# Altium schematic symbol library RoBeast_Schematic_Library.SchLib: 131 symbols (part 1 of 5)
Pins are listed as number, name and electrical type; pins without a type are passive.

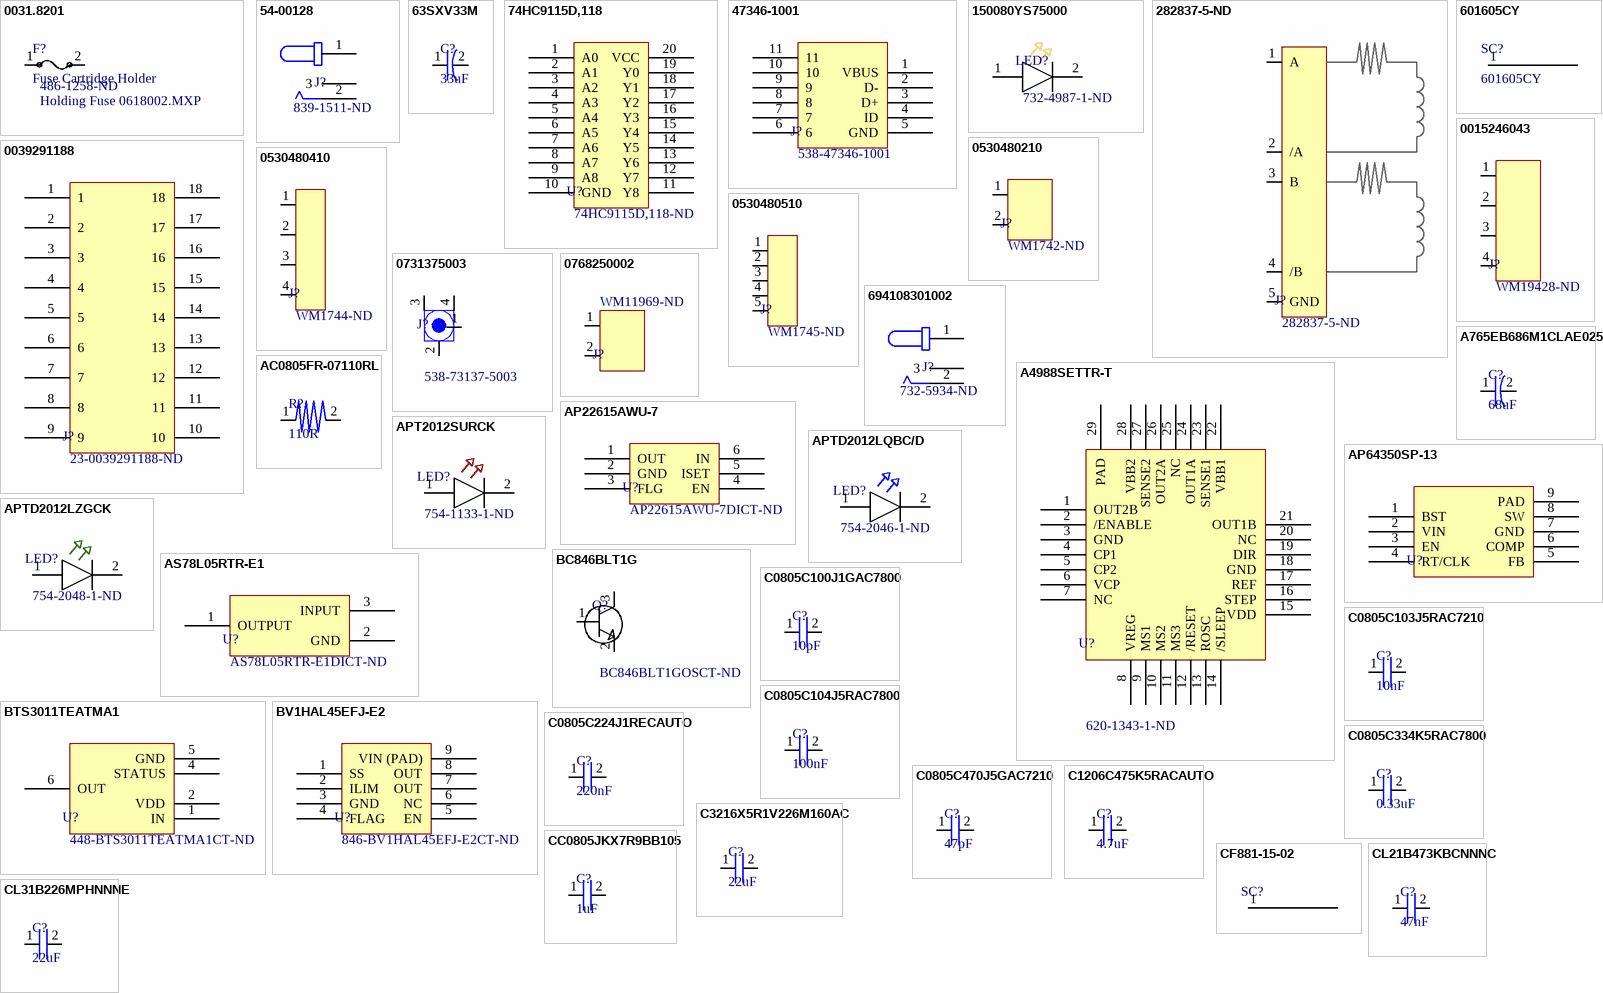
[diagram p0: symbols 0031.8201 to CL31B226MPHNNNE]

## 0031.8201
designator F?, comment Fuse Cartridge Holder  Supplier Part Number 1: 486-1258-ND
Fuse Holder Open Design; 5 x 20mm; 500V; 10A; 1P; Solder THT 22.5mm; Manufacturer: Schurter; Manufacturer Part Number: 00318201; Supplier 1: Digikey; RoHS: Yes; Category: Fuse Holders; Stock 1: 148074; Pricing 1: 1=0.91, 50=0.676, 100=0.608, 500=0.47 (USD); ComponentLink1URL: https://datasheet.ciiva.com/3014/typ-ogn-3014480.pdf?src-supplier=Avnet; ComponentLink1Description: https://datasheet.ciiva.com/3014/typ-ogn-3014480.pdf?src-supplier=Avnet; ComponentLink2URL: https://datasheet.ciiva.com/3014/typ-ogn-3014480.pdf?src-supplier=Mouser; ComponentLink2Description: https://datasheet.ciiva.com/3014/typ-ogn-3014480.pdf?src-supplier=Mouser; ComponentLink3URL: https://datasheet.ciiva.com/16215/typ-ogn-16215099.pdf?src-supplier=Onlinecomponents.com; ComponentLink3Description: https://datasheet.ciiva.com/16215/typ-ogn-16215099.pdf?src-supplier=Onlinecomponents.com; ComponentLink4URL: https://datasheet.ciiva.com/16203/typ-ogn-16203626.pdf?src-supplier=Future+Electronics; ComponentLink4Description: https://datasheet.ciiva.com/16203/typ-ogn-16203626.pdf?src-supplier=Future+Electronics; ComponentLink5URL: https://datasheet.ciiva.com/15188/getdatasheetpartid-392104-15188042.pdf?src-supplier=Verical; ComponentLink5Description: https://datasheet.ciiva.com/15188/getdatasheetpartid-392104-15188042.pdf?src-supplier=Verical; ComponentLink6URL: https://datasheet.ciiva.com/1269/1842496-1269251.pdf?src-supplier=Element14; ComponentLink6Description: https://datasheet.ciiva.com/1269/1842496-1269251.pdf?src-supplier=Element14; ComponentLink7URL: https://datasheet.ciiva.com/25893/typ-ogn-25893934.pdf?; ComponentLink7Description: https://datasheet.ciiva.com/25893/typ-ogn-25893934.pdf?
footprint 0031.8201
pins: 1, 2
text: Holding Fuse 0618002.MXP

## 54-00128
designator J?, comment Supplier Part Number 1: 839-1511-ND  (hidden comment: Power Jack Connector)
Conn DC Power RCP 2 POS Solder RA Thru-Hole 3 Terminal 1 Port; Manufacturer: Tensility; Manufacturer Part Number: 54-00128; Supplier 1: Digikey; RoHS: No; Category: Connectors; Stock 1: 19136; Pricing 1: 1=0.91, 10=0.767, 100=0.6888, 1000=0.50096, 5000=0.43834, 10000=0.41642 (USD); ComponentLink1URL: http://www.tensility.com/pdffiles/54-00128.pdf?src-supplier=Digikey; ComponentLink1Description: http://www.tensility.com/pdffiles/54-00128.pdf?src-supplier=Digikey
footprint 54-00128
pins: 1, 2, 3 (power)

## 63SXV33M
designator C?, comment 33uF
Aluminum Electrolytic Capacitor, Polarized, Aluminum (solid Polymer), 63V, 20% +Tol, 20% -Tol, 33uF, Surface Mount, 3333; Manufacturer: Panasonic; Manufacturer Part Number: 63SXV33M; Supplier 1: Digikey; RoHS: Yes; Category: Polymer Capacitors; Stock 1: 2602; Pricing 1: 1=3.04, 10=2.334, 50=2.144, 100=1.7777 (USD); ComponentLink1URL: https://datasheet.ciiva.com:443/pdfs/VipMasterIC/IC/PANA/PANA-S-A0009016952/PANA-S-A0009016952-1.pdf?src-supplier=IHS+Markit; ComponentLink1Description: https://datasheet.ciiva.com:443/pdfs/VipMasterIC/IC/PANA/PANA-S-A0009016952/PANA-S-A0009016952-1.pdf?src-supplier=IHS+Markit; ComponentLink2URL: https://media.digikey.com/pdf/Data%20Sheets/Panasonic%20Capacitors%20PDFs/SXE,SXV_Series_63V,80V_Line_Ext.pdf?src-supplier=Digikey; ComponentLink2Description: https://media.digikey.com/pdf/Data%20Sheets/Panasonic%20Capacitors%20PDFs/SXE,SXV_Series_63V,80V_Line_Ext.pdf?src-supplier=Digikey; ComponentLink3URL: http://industrial.panasonic.com/cdbs/www-data/pdf/AAB8000/AAB8000C259.pdf?src-supplier=Newark; ComponentLink3Description: http://industrial.panasonic.com/cdbs/www-data/pdf/AAB8000/AAB8000C259.pdf?src-supplier=Newark; ComponentLink4URL: https://media.digikey.com/pdf/Data%20Sheets/Panasonic%20Capacitors%20PDFs/SXE,SXV_Series_63V,80V_Line_Ext.pdf?src-supplier=Verical; ComponentLink4Description: https://media.digikey.com/pdf/Data%20Sheets/Panasonic%20Capacitors%20PDFs/SXE,SXV_Series_63V,80V_Line_Ext.pdf?src-supplier=Verical; ComponentLink5URL: https://datasheet.octopart.com/63SXV33M-Panasonic-datasheet-78862147.pdf?src-supplier=Element14; ComponentLink5Description: https://datasheet.octopart.com/63SXV33M-Panasonic-datasheet-78862147.pdf?src-supplier=Element14; ComponentLink6URL: https://industrial.panasonic.com/cdbs/www-data/pdf/AAB8000/AAB8000C259.pdf?src-supplier=Digikey; ComponentLink6Description: https://industrial.panasonic.com/cdbs/www-data/pdf/AAB8000/AAB8000C259.pdf?src-supplier=Digikey; ComponentLink7URL: http://industrial.panasonic.com/cdbs/www-data/pdf/AAB8000/AAB8000C259.pdf?src-supplier=Farnell; ComponentLink7Description: http://industrial.panasonic.com/cdbs/www-data/pdf/AAB8000/AAB8000C259.pdf?src-supplier=Farnell; ComponentLink8URL: https://media.digikey.com/pdf/Data%20Sheets/Panasonic%20Capacitors%20PDFs/SXE,SXV_Series_63V,80V_Line_Ext.pdf?src-supplier=Mouser; ComponentLink8Description: https://media.digikey.com/pdf/Data%20Sheets/Panasonic%20Capacitors%20PDFs/SXE,SXV_Series_63V,80V_Line_Ext.pdf?src-supplier=Mouser; ComponentLink9URL: https://media.digikey.com/pdf/Data%20Sheets/Panasonic%20Capacitors%20PDFs/SXE,SXV_Series_63V,80V_Line_Ext.pdf?src-supplier=Onlinecomponents.com; ComponentLink9Description: https://media.digikey.com/pdf/Data%20Sheets/Panasonic%20Capacitors%20PDFs/SXE,SXV_Series_63V,80V_Line_Ext.pdf?src-supplier=Onlinecomponents.com; ComponentLink10URL: https://media.digikey.com/pdf/Data%20Sheets/Panasonic%20Capacitors%20PDFs/SXE,SXV_Series_63V,80V_Line_Ext.pdf?src-supplier=Arrow+Electronics; ComponentLink10Description: https://media.digikey.com/pdf/Data%20Sheets/Panasonic%20Capacitors%20PDFs/SXE,SXV_Series_63V,80V_Line_Ext.pdf?src-supplier=Arrow+Electronics; ComponentLink11URL: https://datasheet.octopart.com/63SXV33M-Panasonic-datasheet-98225043.pdf?src-supplier=Farnell; ComponentLink11Description: https://datasheet.octopart.com/63SXV33M-Panasonic-datasheet-98225043.pdf?src-supplier=Farnell; ComponentLink12URL: https://media.digikey.com/pdf/Data%20Sheets/Panasonic%20Capacitors%20PDFs/SXE,SXV_Series_63V,80V_Line_Ext.pdf?src-supplier=Conrad; ComponentLink12Description: https://media.digikey.com/pdf/Data%20Sheets/Panasonic%20Capacitors%20PDFs/SXE,SXV_Series_63V,80V_Line_Ext.pdf?src-supplier=Conrad; ComponentLink13URL: https://media.digikey.com/pdf/Data%20Sheets/Panasonic%20Capacitors%20PDFs/SXE,SXV_Series_63V,80V_Line_Ext.pdf?src-supplier=TTI; ComponentLink13Description: https://media.digikey.com/pdf/Data%20Sheets/Panasonic%20Capacitors%20PDFs/SXE,SXV_Series_63V,80V_Line_Ext.pdf?src-supplier=TTI; ComponentLink14URL: https://media.digikey.com/pdf/Data%20Sheets/Panasonic%20Capacitors%20PDFs/SXE,SXV_Series_63V,80V_Line_Ext.pdf?src-supplier=Electro+Sonic; ComponentLink14Description: https://media.digikey.com/pdf/Data%20Sheets/Panasonic%20Capacitors%20PDFs/SXE,SXV_Series_63V,80V_Line_Ext.pdf?src-supplier=Electro+Sonic; ComponentLink15URL: https://media.digikey.com/pdf/Data%20Sheets/Panasonic%20Capacitors%20PDFs/SXE,SXV_Series_63V,80V_Line_Ext.pdf?src-supplier=NAC+Semi; ComponentLink15Description: https://media.digikey.com/pdf/Data%20Sheets/Panasonic%20Capacitors%20PDFs/SXE,SXV_Series_63V,80V_Line_Ext.pdf?src-supplier=NAC+Semi; ComponentLink16URL: https://datasheet.octopart.com/63SXV33M-Panasonic-datasheet-136807604.pdf?src-supplier=Master+Electronics; ComponentLink16Description: https://datasheet.octopart.com/63SXV33M-Panasonic-datasheet-136807604.pdf?src-supplier=Master+Electronics; Supplier Part Number 1: P18934CT-ND
footprint 63SXV33M
pins: 1, 2

## 74HC9115D,118
designator U?, comment Supplier Part Number 1: 74HC9115D,118-ND  (hidden comment: Schmitt Trigger (x9))
Buffer, HC/UH Series, 9-Func, 1-Input, CMOS, PDSO20; Manufacturer: NXP Semiconductors; Manufacturer Part Number: 74HC9115D,118; Package Body Material: Plastic; Load Capacitance (CL): 50pF; Max I(ol): 4mA; Number of Functions: 9; Number of Inputs: 1; Output Characteristics: OPEN-DRAIN; Package Equivalence Code: SOP20,.4; Power Supplies: 2/6V; Propagation Delay (tpd): 33ns; Schmitt Trigger: Yes; Supply Voltage-Max (Vsup): 6V; Supply Voltage-Min (Vsup): 2V; Supply Voltage-Nom (Vsup): 5V; Time @ Peak Reflow Temperature-Max (s): 30s; Qualification Status: Not Qualified; Supplier 1: Digikey; RoHS: Yes; Category: Uncategorized; Package Code: SOP; Number of Pins: 20; Package Shape: Rectangular; Terminal Finish: Nickel; Min Operating Temperature: -40°C; Max Operating Temperature: 125°C; JESD-609 Code: e4; JESD-30 Code: R-PDSO-G20; Logic IC Type: BUFFER; Moisture Sensitivity Level: 1; Package Style: SMALL OUTLINEMeter; Packaging: Tape and Reel; Peak Reflow Temperature (Cel): 260°C; Surface Mount: Yes; Technology: CMOS; Terminal Form: Gull Wing; Terminal Position: DUAL; Length: 12.8mm; Width: 7.5mm; Height - Seated (Max): 2.65mm; Terminal Pitch: 1.27mm; Temperature Grade: AUTOMOTIVE; RoHS Compliant: Yes; Reach SVHC Compliant: Yes; ComponentLink1URL: https://datasheet.ciiva.com:443/pdfs/VipMasterIC/IC/PHGL/PHGLS05970/PHGLS05970-1.pdf?src-supplier=IHS+Markit; ComponentLink1Description: https://datasheet.ciiva.com:443/pdfs/VipMasterIC/IC/PHGL/PHGLS05970/PHGLS05970-1.pdf?src-supplier=IHS+Markit; ComponentLink2URL: https://datasheet.ciiva.com/8262/74hc-hct9115-cnv-8262544.pdf?src-supplier=Avnet; ComponentLink2Description: https://datasheet.ciiva.com/8262/74hc-hct9115-cnv-8262544.pdf?src-supplier=Avnet; ComponentLink3URL: https://datasheet.ciiva.com/1839/74hc-hct9115-cnv-1839353.pdf?src-supplier=Digikey; ComponentLink3Description: https://datasheet.ciiva.com/1839/74hc-hct9115-cnv-1839353.pdf?src-supplier=Digikey
footprint 74HC9115D,118
pins: 1 A0, 2 A1, 3 A2, 4 A3, 5 A4, 6 A5, 7 A6, 8 A7, 9 A8, 10 GND, 11 Y8, 12 Y7, 13 Y6, 14 Y5, 15 Y4, 16 Y3, 17 Y2, 18 Y1, 19 Y0, 20 VCC

## 47346-1001
designator J?, comment Supplier Part Number 1: 538-47346-1001  (hidden comment: uUSB)
USB Connector, 5 Contact(s), Female, Right Angle, Surface Mount Terminal, Locking, Receptacle; Manufacturer: Molex; Manufacturer Part Number: 47346-1001; Supplier 1: Mouser; RoHS: Yes; Category: USB Connectors; Stock 1: 5356; Pricing 1: 1=0.76, 10=0.654, 50=0.654, 100=0.58, 1000=0.527, 10000=0.497 (USD)
footprint 47346-1001
pins: 1 VBUS, 2 D-, 3 D+, 4 ID, 5 GND, 6, 7, 8, 9, 10, 11

## 150080YS75000
designator LED?, comment Supplier Part Number 1: 732-4987-1-ND  (hidden comment: Yellow LED)
Single Color LED, Yellow, Water Clear, 1.4mm; Manufacturer: Wurth Electronics; Manufacturer Part Number: 150080YS75000; Shape: Rectangular; Forward Current-Max: 30mA; Luminous Intensity-Nom: 120mcd; Number of Functions: 1; Viewing Angle: 140°; Overall Height: 0.7mm; Supplier 1: Digikey; RoHS: Yes; Category: LEDs; Stock 1: 29241; Pricing 1: 1=0.19, 50=0.176, 100=0.151, 500=0.131 (USD); Mount: Surface Mount; Number of Pins: 2; Color: Yellow; Min Operating Temperature: -40°C; Max Operating Temperature: 85°C; Lens Style: WATER CLEAR; Optoelectronic Device Type: SINGLE COLOR LED; Packaging: Tape and Reel; Size: 1.4mm; Terminal Pitch: 2.1mm; Reach SVHC Compliant: Yes; RoHS Compliant: Yes; ComponentLink1URL: https://datasheet.ciiva.com:443/pdfs/VipMasterIC/IC/MIDC/MIDC-S-A0007455942/MIDC-S-A0007455942-1.pdf?src-supplier=IHS+Markit; ComponentLink1Description: https://datasheet.ciiva.com:443/pdfs/VipMasterIC/IC/MIDC/MIDC-S-A0007455942/MIDC-S-A0007455942-1.pdf?src-supplier=IHS+Markit; ComponentLink2URL: https://datasheet.ciiva.com/23843/150080ys75000-23843256.pdf?src-supplier=Newark; ComponentLink2Description: https://datasheet.ciiva.com/23843/150080ys75000-23843256.pdf?src-supplier=Newark; ComponentLink3URL: https://datasheet.ciiva.com/29279/759438-da-01-en-chipled-0805-w-kl-gelb-150080ys75000-29279034.pdf?src-supplier=Conrad; ComponentLink3Description: https://datasheet.ciiva.com/29279/759438-da-01-en-chipled-0805-w-kl-gelb-150080ys75000-29279034.pdf?src-supplier=Conrad; ComponentLink4URL: https://datasheet.ciiva.com/22656/1911353-22656971.pdf?src-supplier=Element14; ComponentLink4Description: https://datasheet.ciiva.com/22656/1911353-22656971.pdf?src-supplier=Element14; ComponentLink5URL: https://datasheet.ciiva.com/29563/150080ys75000-29563020.pdf?src-supplier=Digikey; ComponentLink5Description: https://datasheet.ciiva.com/29563/150080ys75000-29563020.pdf?src-supplier=Digikey; ComponentLink6URL: https://datasheet.ciiva.com/29563/150080ys75000-29563019.pdf?src-supplier=Digikey; ComponentLink6Description: https://datasheet.ciiva.com/29563/150080ys75000-29563019.pdf?src-supplier=Digikey; ComponentLink7URL: https://datasheet.ciiva.com/29563/150080ys75000-29563021.pdf?src-supplier=Digikey; ComponentLink7Description: https://datasheet.ciiva.com/29563/150080ys75000-29563021.pdf?src-supplier=Digikey
footprint 0805_LED
pins: 1 A, 2 K

## 282837-5-ND
designator J?, comment Supplier Part Number: 282837-5-ND  (hidden comment: Motor Connector)
Modular Terminal Block, 13.5A, 1.5mm2, 1 Row(s), 1 Deck(s); Manufacturer: TE Connectivity; Manufacturer Part Number: 282837-5; Manufacturer Series: 282837; Fastening Method: SCREW; Number of Decks: 1; Number of Ways: 5; Voltage Rating: 300V; Wire/Cable Gauge: 15AWG; Safety Approval: UL; Supplier: Digikey; Category: Terminal Blocks; Stock: 2167; Pricing: 1=1.56, 10=1.427, 25=1.3852, 50=1.3712, 100=1.2727, 250=1.2516, 500=1.13908, 1000=1.01956, 5000=0.91408 (USD); Mounting Technology: Board; Number of Rows: 1; Terminal and Terminal Block Type: MODULAR TERMINAL BLOCK; Current Rating: 13.5A; Wire Cross Section: 1.5mm2; RoHS Compliant: Yes; ComponentLink1URL: https://www.te.com:443/usa-en/product-282837-5.html?src-supplier=IHS+Markit; ComponentLink1Description: https://www.te.com:443/usa-en/product-282837-5.html?src-supplier=IHS+Markit; ComponentLink2URL: https://datasheet.ciiva.com/23766/1650862-23766273.pdf?src-supplier=Newark; ComponentLink2Description: https://datasheet.ciiva.com/23766/1650862-23766273.pdf?src-supplier=Newark; ComponentLink3URL: https://datasheet.ciiva.com/16305/282837-5-16305253.pdf?src-supplier=Future+Electronics; ComponentLink3Description: https://datasheet.ciiva.com/16305/282837-5-16305253.pdf?src-supplier=Future+Electronics; ComponentLink4URL: https://datasheet.ciiva.com/823/eng-cd-282837-g3-823468.pdf?src-supplier=Digikey; ComponentLink4Description: https://datasheet.ciiva.com/823/eng-cd-282837-g3-823468.pdf?src-supplier=Digikey; ComponentLink5URL: https://datasheet.ciiva.com/3141/eng-cs-1308389-eurostyle-terminal-blocks-0607-3141582.pdf?src-supplier=Avnet; ComponentLink5Description: https://datasheet.ciiva.com/3141/eng-cs-1308389-eurostyle-terminal-blocks-0607-3141582.pdf?src-supplier=Avnet; RoHS: Yes; Reach SVHC Compliant: No
footprint 282837-5-ND
pins: 1 A, 2 /A, 3 B, 4 /B, 5 GND

## 601605CY
designator SC?
5 Core, AWG 16
pins: 1

## 0015246043
designator J?, comment Supplier Part Number: WM19428-ND  (hidden comment: 4 Pin Connector)
Rectangular Power Connector, 4 Contact(s), Male, Solder Terminal, Receptacle; Manufacturer: Molex; Manufacturer Series: 42404; Connector Type: Power,Rectangular; Option: General Purpose; Empty Shell: No; Mating Information: MULTIPLE MATING PARTS AVAILABLE; Number of Contacts: 4; Contact Style: SQ PIN-SKT; Insertion Force-Max: 14.6784N; Number Of Connectors: 1; Number of Rows Loaded: 2; Contact Resistance: 10mR; Insulation Resistance: 1GR; Withdrawl Force-Min: 1.0008N; Board Mounting Option: SPLIT BOARD LOCK; Dielectric Withstanding Voltage (AC): 2.2kV; Durability: 30Cycles; Polarization Key: POLARIZED HOUSING; Rated Current (Signal): 8A; Body Breadth: 0.591inch; Body Depth: 0.815inch; Mounting Option 1: GUIDE SLOT; Mating Contact Pitch: 0.165inch; Mounting Option 2: LOCKING; PCB Contact Row Spacing: 5.5118mm; Plating Thickness: 30uin; Reference Standard: UL; Reliability: COMMERCIAL; Supplier: Digikey; Manufacturer Part Number: 15-24-6043; RoHS: Yes; Category: Headers and Wire Housings; Stock: 3180; Pricing: 1=2.55, 10=2.244, 880=1.78517, 1760=1.42814, 5280=1.32613 (USD); Mounting Technology: Board; Contact Finish - Mating: NOT SPECIFIED; Shell Material: POLYAMIDE66; Insulation Color: Natural; Insulation Material: Nylon; Min Operating Temperature: -40°C; Max Operating Temperature: 105°C; Contact Gender: Male; Filter Feature: No; Mixed Contacts: No; Termination: Solder; Body/Shell Style: RECEPTACLE; Mounting Style: RIGHT ANGLE; Contact Pattern: RECTANGULAR; Number Of PCB Rows: 2; PCB Contact Pattern: RECTANGULAR; Mating Contact Row Spacing: 0.165inch; Terminal Length: 0.13inch; Terminal Pitch: 4.191mm; Flammability Rating: UL94 V-0; DIN Conformance: No; IEC Conformance: No; MIL Conformance: No; Reach SVHC Compliant: Yes; RoHS Compliant: Yes; ComponentLink1URL: https://datasheet.ciiva.com:443/pdfs/VipMasterIC/IC/MOLE/MOLES39673/MOLES39673-1.pdf?src-supplier=IHS+Markit; ComponentLink1Description: https://datasheet.ciiva.com:443/pdfs/VipMasterIC/IC/MOLE/MOLES39673/MOLES39673-1.pdf?src-supplier=IHS+Markit; ComponentLink2URL: https://datasheet.ciiva.com/16095/789440015246043-pcb-headers-16095349.pdf?src-supplier=Onlinecomponents.com; ComponentLink2Description: https://datasheet.ciiva.com/16095/789440015246043-pcb-headers-16095349.pdf?src-supplier=Onlinecomponents.com; ComponentLink3URL: https://datasheet.ciiva.com/30160/0015246043-pcb-headers-30160175.pdf?src-supplier=Onlinecomponents.com; ComponentLink3Description: https://datasheet.ciiva.com/30160/0015246043-pcb-headers-30160175.pdf?src-supplier=Onlinecomponents.com
footprint 0015246043
pins: 1, 2, 3, 4

## 0039291188
designator J?, comment Supplier Part Number 1: 23-0039291188-ND  (hidden comment: 18 Pin Connector)
Rectangular Power Connector, 18 Contact(s), Male, Solder Terminal, Receptacle; Manufacturer: Molex; Connector Type: Power,Rectangular; Option: General Purpose; Board Mounting Option: MOUNTING FLANGE; Contact Resistance: 10mR; Contact Style: SQ PIN-SKT; Dielectric Withstanding Voltage (AC): 1.5kV; Durability: 30Cycles; Empty Shell: No; Insertion Force-Max: 6.672N; Insulation Resistance: 1GR; Mating Information: MULTIPLE MATING PARTS AVAILABLE; Number Of Connectors: 1; Number Of PCB Rows: 2; Polarization Key: POLARIZED HOUSING; Rated Current (Signal): 6A; Number of Contacts: 18; Withdrawl Force-Min: 3.1136N; Body Breadth: 0.394inch; Body Depth: 0.72inch; Body Length: 1.929inch; Mating Contact Pitch: 0.165inch; Mounting Option 1: POLARIZED LCK; Mounting Option 2: LOCKING; PCB Contact Row Spacing: 5.5118mm; Plating Thickness: 200uin; Reference Standard: UL; Reliability: COMMERCIAL; Supplier 1: Digikey; Manufacturer Part Number: 39-29-1188; RoHS: Yes; Category: Headers and Wire Housings; Stock 1: 8423; Pricing 1: 1=4.09, 10=3.6, 100=2.8634, 1000=2.37249 (USD); Mount: Board; Contact Finish - Mating: NOT SPECIFIED; Contact Finish - Termination: Tin (Sn) - with Nickel (Ni) barrier; Insulation Material: Nylon; Shell Material: Nylon; Min Operating Temperature: -40°C; Max Operating Temperature: 105°C; JESD-609 Code: e3; Body/Shell Style: RECEPTACLE; Contact Gender: Male; Contact Pattern: RECTANGULAR; Filter Feature: No; Mixed Contacts: No; Mounting Style: RIGHT ANGLE; Number of Rows Loaded: 2; PCB Contact Pattern: RECTANGULAR; Termination: Solder; Mating Contact Row Spacing: 0.165inch; Terminal Length: 0.138inch; Terminal Pitch: 4.191mm; Flammability Rating: UL94 V-2; DIN Conformance: No; IEC Conformance: No; MIL Conformance: No; Reach SVHC Compliant: Yes; RoHS Compliant: Yes; ComponentLink1URL: https://datasheet.ciiva.com:443/pdfs/VipMasterIC/IC/MOLE/MOLE-S-A0004635529/MOLE-S-A0004635529-1.pdf?src-supplier=IHS+Markit; ComponentLink1Description: https://datasheet.ciiva.com:443/pdfs/VipMasterIC/IC/MOLE/MOLE-S-A0004635529/MOLE-S-A0004635529-1.pdf?src-supplier=IHS+Markit; ComponentLink2URL: https://datasheet.ciiva.com/711/039291028-sd-711978.pdf?src-supplier=Digikey; ComponentLink2Description: https://datasheet.ciiva.com/711/039291028-sd-711978.pdf?src-supplier=Digikey; ComponentLink3URL: https://datasheet.ciiva.com/30097/128000039291188-pcb-headers-30097010.pdf?src-supplier=Onlinecomponents.com; ComponentLink3Description: https://datasheet.ciiva.com/30097/128000039291188-pcb-headers-30097010.pdf?src-supplier=Onlinecomponents.com; ComponentLink4URL: https://datasheet.ciiva.com/26916/getdatasheetpartid-310375-26916660.pdf?src-supplier=Verical; ComponentLink4Description: https://datasheet.ciiva.com/26916/getdatasheetpartid-310375-26916660.pdf?src-supplier=Verical; ComponentLink5URL: https://datasheet.ciiva.com/11748/0900766b8059542f-11748868.pdf?src-supplier=Rs; ComponentLink5Description: https://datasheet.ciiva.com/11748/0900766b8059542f-11748868.pdf?src-supplier=Rs; ComponentLink6URL: https://datasheet.ciiva.com/5158/0039291188-pcb-headers-228408-5158739.pdf?src-supplier=Mouser; ComponentLink6Description: https://datasheet.ciiva.com/5158/0039291188-pcb-headers-228408-5158739.pdf?src-supplier=Mouser; ComponentLink7URL: https://datasheet.ciiva.com/1442/1865038-1442913.pdf?src-supplier=Element14; ComponentLink7Description: https://datasheet.ciiva.com/1442/1865038-1442913.pdf?src-supplier=Element14
footprint 0039291188
pins: 1, 2, 3, 4, 5, 6, 7, 8, 9, 10, 11, 12, 13, 14, 15, 16, 17, 18

## 0530480210
designator J?, comment Supplier Part Number: WM1742-ND  (hidden comment: 2 Pin Male Connector)
Board Connector, 2 Contact(s), 1 Row(s), Male, Right Angle, 0.049 inch Pitch, Solder Terminal, Locking, Natural Insulator, Receptacle; Manufacturer: Molex; Manufacturer Part Number: 53048-0210; Option: General Purpose; Filter Feature: No; Mating Information: MULTIPLE MATING PARTS AVAILABLE; Number of Rows Loaded: 1; Number of Contacts: 2; Contact Pattern: RECTANGULAR; Contact Resistance: 20mR; Contact Style: SQ PIN-SKT; Insulation Resistance: 100MR; Body Breadth: 0.138inch; Body Depth: 0.217inch; Body Length: 0.167inch; Reliability: COMMERCIAL; Supplier: Digikey; RoHS: Yes; Category: Headers and Wire Housings; Stock: 155973; Pricing: 1=0.38, 10=0.309, 80=0.22663, 945=0.18029, 5000=0.15453, 10000=0.14423 (USD); Mounting Technology: Board; Contact Finish - Mating: TIN; Contact Finish - Termination: Tin (Sn); Insulation Color: Natural; Insulation Material: Nylon; Min Operating Temperature: -40°C; Max Operating Temperature: 85°C; Connector Type: BOARD CONNECTOR; Contact Gender: Male; Mixed Contacts: No; Mounting Style: RIGHT ANGLE; Termination: Solder; JESD-609 Code: e3; Body/Shell Style: RECEPTACLE; Number Of Connectors: 1; Number Of PCB Rows: 1; PCB Contact Pattern: RECTANGULAR; Terminal Pitch: 1.25mm; Mating Contact Pitch: 0.049inch; Mounting Option 1: LOCKING; Terminal Length: 0.091inch; Flammability Rating: UL94 V-0; DIN Conformance: No; IEC Conformance: No; MIL Conformance: No; Reach SVHC Compliant: Yes; RoHS Compliant: Yes; ComponentLink1URL: https://datasheet.ciiva.com:443/pdfs/VipMasterIC/IC/MOLE/MOLE-S-A0001318164/MOLE-S-A0001396416-1.pdf?src-supplier=IHS+Markit; ComponentLink1Description: https://datasheet.ciiva.com:443/pdfs/VipMasterIC/IC/MOLE/MOLE-S-A0001318164/MOLE-S-A0001396416-1.pdf?src-supplier=IHS+Markit
footprint 0530480210
pins: 1, 2

## 0530480410
designator J?, comment Supplier Part Number: WM1744-ND  (hidden comment: 4 Pin Male Connector)
Board Connector, 4 Contact(s), 1 Row(s), Male, Right Angle, Solder Terminal; Manufacturer: Molex; Manufacturer Part Number: 53048-0410; Option: General Purpose; Additional Feature: SHROUDED; Filter Feature: No; Mating Information: MULTIPLE MATING PARTS AVAILABLE; Number of Rows Loaded: 1; Number of Contacts: 4; Supplier: Digikey; RoHS: Yes; Category: Headers and Wire Housings; Stock: 40399; Pricing: 1=0.43, 10=0.364, 80=0.28338, 945=0.22265, 5000=0.19566, 10000=0.18216 (USD); Mounting Technology: Board; Contact Finish - Mating: NOT SPECIFIED; Connector Type: BOARD CONNECTOR; Contact Gender: Male; Mixed Contacts: No; Mounting Style: RIGHT ANGLE; Termination: Solder; Terminal Pitch: 1.25mm; Flammability Rating: UL94 V-0; DIN Conformance: No; IEC Conformance: No; MIL Conformance: No; Reach SVHC Compliant: Yes; RoHS Compliant: Yes; ComponentLink1URL: https://datasheet.ciiva.com:443/pdfs/VipMasterIC/IC/MOLE/MOLE-S-A0001396307/MOLE-S-A0001395905-1.pdf?src-supplier=IHS+Markit; ComponentLink1Description: https://datasheet.ciiva.com:443/pdfs/VipMasterIC/IC/MOLE/MOLE-S-A0001396307/MOLE-S-A0001395905-1.pdf?src-supplier=IHS+Markit; ComponentLink2URL: https://datasheet.ciiva.com/11746/0900766b8024e368-11746405.pdf?src-supplier=Rs; ComponentLink2Description: https://datasheet.ciiva.com/11746/0900766b8024e368-11746405.pdf?src-supplier=Rs; ComponentLink3URL: https://datasheet.ciiva.com/14156/gg116847-116860-e-14156218.pdf?src-supplier=Distrelec; ComponentLink3Description: https://datasheet.ciiva.com/14156/gg116847-116860-e-14156218.pdf?src-supplier=Distrelec; ComponentLink4URL: https://datasheet.ciiva.com/10090/0530480410-pcb-headers-10090535.pdf?src-supplier=Avnet; ComponentLink4Description: https://datasheet.ciiva.com/10090/0530480410-pcb-headers-10090535.pdf?src-supplier=Avnet
footprint 0530480410
pins: 1, 2, 3, 4

## 0530480510
designator J?, comment Supplier Part Number: WM1745-ND  (hidden comment: 5 Pin Male Connector)
Board Connector, 5 Contact(s), 1 Row(s), Male, Right Angle, 0.049 inch Pitch, Solder Terminal, Locking, Natural Insulator, Receptacle; Manufacturer: Molex; Manufacturer Part Number: 53048-0510; Manufacturer Series: 53048; Option: General Purpose; Contact Pattern: RECTANGULAR; Contact Resistance: 20mR; Contact Style: SQ PIN-SKT; Filter Feature: No; Insulation Resistance: 100MR; Mating Information: MULTIPLE MATING PARTS AVAILABLE; Number Of Connectors: 1; Number of Contacts: 5; Body Breadth: 0.138inch; Body Depth: 0.217inch; Body Length: 0.315inch; Reliability: COMMERCIAL; Supplier: Digikey; RoHS: Yes; Category: Headers and Wire Housings; Stock: 61267; Pricing: 1=0.49, 10=0.414, 80=0.32175, 4000=0.22983, 8000=0.20684, 12000=0.20378 (USD); Mounting Technology: Board; Contact Finish - Mating: TIN; Contact Material: Bronze; Contact Finish - Termination: Tin (Sn); Insulation Color: Natural; Insulation Material: Nylon; Min Operating Temperature: -40°C; Max Operating Temperature: 85°C; Connector Type: BOARD CONNECTOR; JESD-609 Code: e3; Body/Shell Style: RECEPTACLE; Contact Gender: Male; Mixed Contacts: No; Mounting Style: RIGHT ANGLE; Number Of PCB Rows: 1; Number of Rows Loaded: 1; PCB Contact Pattern: RECTANGULAR; Termination: Solder; Mating Contact Pitch: 0.049inch; Mounting Option 1: LOCKING; Terminal Length: 0.091inch; Terminal Pitch: 1.25mm; Flammability Rating: UL94 V-0; Reach SVHC Compliant: Yes; RoHS Compliant: Yes; DIN Conformance: No; IEC Conformance: No; MIL Conformance: No; ComponentLink1URL: https://datasheet.ciiva.com:443/pdfs/VipMasterIC/IC/MOLE/MOLE-S-A0001318164/MOLE-S-A0001396416-1.pdf?src-supplier=IHS+Markit; ComponentLink1Description: https://datasheet.ciiva.com:443/pdfs/VipMasterIC/IC/MOLE/MOLE-S-A0001318164/MOLE-S-A0001396416-1.pdf?src-supplier=IHS+Markit
footprint 0530480510
pins: 1, 2, 3, 4, 5

## 0731375003
designator J?, comment Supplier Part Number 1: 538-73137-5003  (hidden comment: BNC Connector)
RF BNC Connector, 1 Contact(s), Female, Panel Mount, Board Mount, Solder Terminal, Locking, Receptacle; Manufacturer: Molex; Manufacturer Part Number: 73137-5003; Manufacturer Series: 73137; Option: General Purpose; Characteristic Impedance: 50R; Coupling Type: Bayonet; Filter Feature: No; Panel Mount: Yes; Contact Resistance: 1.5mR; Contact Style: Coax; Dielectric Withstanding Voltage (AC): 2.1kV; Durability: 500Cycles; Insertion Loss: 0.2dB; Insulation Resistance: 5GR; Mating Information: MULTIPLE MATING PARTS AVAILABLE; Number of Ports: 1; Operating Frequency-Max: 4kHz; VSWR: 1.3; Body Breadth: 0.52inch; Body Depth: 1.385inch; Body Length: 0.581inch; Reference Standard: UL; Supplier 1: Mouser; RoHS: Yes; Category: RF / Coaxial Connectors; Stock 1: 2215; Pricing 1: 1=4.82, 10=4.24, 50=4.24, 100=3.37, 1000=2.79, 10000=2.6 (USD); Mount: Board; Contact Finish - Mating: NOT SPECIFIED; Insulation Color: Black; Insulation Material: Polypropylene; Shell Finish: Nickel; Shell Material: Zinc; Connector Type: BNC; Body/Shell Style: RECEPTACLE; Contact Gender: Female; Mounting Style: RIGHT ANGLE; Termination: Solder; Number of Contacts: 1; Mounting Option 1: LOCKING; Terminal Length: 0.163inch; RoHS Compliant: Yes; DIN Conformance: No; IEC Conformance: No; MIL Conformance: No; Reach SVHC Compliant: No; ComponentLink1URL: https://datasheet.ciiva.com:443/pdfs/VipMasterIC/IC/MOLE/MOLES59426/MOLES59426-1.pdf?src-supplier=IHS+Markit; ComponentLink1Description: https://datasheet.ciiva.com:443/pdfs/VipMasterIC/IC/MOLE/MOLES59426/MOLES59426-1.pdf?src-supplier=IHS+Markit; ComponentLink2URL: https://datasheet.ciiva.com/19460/1976769-19460336.pdf?src-supplier=Jameco; ComponentLink2Description: https://datasheet.ciiva.com/19460/1976769-19460336.pdf?src-supplier=Jameco; ComponentLink3URL: https://datasheet.ciiva.com/5176/0731375003-rf-coax-connectors-173113-5176792.pdf?src-supplier=Mouser; ComponentLink3Description: https://datasheet.ciiva.com/5176/0731375003-rf-coax-connectors-173113-5176792.pdf?src-supplier=Mouser; ComponentLink4URL: https://datasheet.ciiva.com/15172/getdatasheetpartid-42660-15172351.pdf?src-supplier=Verical; ComponentLink4Description: https://datasheet.ciiva.com/15172/getdatasheetpartid-42660-15172351.pdf?src-supplier=Verical; ComponentLink5URL: https://datasheet.ciiva.com/16080/1194240731375003-rf-coax-nectors-16080996.pdf?src-supplier=Onlinecomponents.com; ComponentLink5Description: https://datasheet.ciiva.com/16080/1194240731375003-rf-coax-nectors-16080996.pdf?src-supplier=Onlinecomponents.com; ComponentLink6URL: https://datasheet.ciiva.com/22826/0900766b810de4ef-22826921.pdf?src-supplier=Rs; ComponentLink6Description: https://datasheet.ciiva.com/22826/0900766b810de4ef-22826921.pdf?src-supplier=Rs
footprint 0731375003
pins: 1 SIGN, 2 GND, 3 SUP, 4 SUP

## 0768250002
designator J?, comment Supplier Part Number 1: WM11969-ND  (hidden comment: 2 Pin Connector)
Rectangular Power Connector, 2 Contact(s), Male, Solder Terminal; Manufacturer: Molex; Manufacturer Part Number: 76825-0002; Connector Type: Power,Rectangular; Option: General Purpose; Empty Shell: No; Mating Information: MULTIPLE MATING PARTS AVAILABLE; Number of Contacts: 2; Supplier 1: Digikey; RoHS: Yes; Category: Headers and Wire Housings; Stock 1: 94658; Pricing 1: 1=1.38, 10=1.174, 80=0.96963, 1850=0.74001, 3700=0.71449 (USD); Mount: Board; Contact Material: Copper; Contact Finish - Mating: TIN; Contact Finish - Termination: TIN; Shell Material: Polymer; JESD-609 Code: e3; Contact Gender: Male; Filter Feature: No; Mixed Contacts: No; Termination: Solder; Flammability Rating: UL94 V-0; DIN Conformance: No; IEC Conformance: No; MIL Conformance: No; Reach SVHC Compliant: Yes; RoHS Compliant: Yes; ComponentLink1URL: https://datasheet.ciiva.com:443/pdfs/VipMasterIC/IC/MOLE/MOLE-S-A0003541135/MOLE-S-A0003541135-1.pdf?src-supplier=IHS+Markit; ComponentLink1Description: https://datasheet.ciiva.com:443/pdfs/VipMasterIC/IC/MOLE/MOLE-S-A0003541135/MOLE-S-A0003541135-1.pdf?src-supplier=IHS+Markit
footprint 26-01-3114
pins: 1, 2

## 694108301002
designator J?, comment Supplier Part Number 1: 732-5934-ND  (hidden comment: Power Jack Connector)
Circular DC Power Connector, 24V, 5A, 2.5mm Dia; Manufacturer: Wurth Electronics; Manufacturer Part Number: 694108301002; Connector Type: Circular,Power; Supplier 1: Digikey; RoHS: Yes; Category: Power Connectors; Stock 1: 2141; Pricing 1: 1=1.02, 10=0.97, 50=0.86, 100=0.8, 500=0.69, 1000=0.59 (USD); Contact Finish - Mating: NOT SPECIFIED; Reach SVHC Compliant: Yes; RoHS Compliant: Yes; ComponentLink1URL: https://datasheet.ciiva.com:443/pdfs/VipMasterIC/IC/MIDC/MIDC-S-A0001192814/MIDC-S-A0001192814-1.pdf?src-supplier=IHS+Markit; ComponentLink1Description: https://datasheet.ciiva.com:443/pdfs/VipMasterIC/IC/MIDC/MIDC-S-A0001192814/MIDC-S-A0001192814-1.pdf?src-supplier=IHS+Markit; ComponentLink2URL: http://www.mouser.com/ds/2/445/6941xx301002-469315.pdf?src-supplier=Mouser; ComponentLink2Description: http://www.mouser.com/ds/2/445/6941xx301002-469315.pdf?src-supplier=Mouser; ComponentLink3URL: http://www.farnell.com/cad/2130967.pdf?src-supplier=Element14; ComponentLink3Description: http://www.farnell.com/cad/2130967.pdf?src-supplier=Element14; ComponentLink4URL: https://katalog.we-online.de/em/datasheet/6941xx301002.pdf?src-supplier=Digikey; ComponentLink4Description: https://katalog.we-online.de/em/datasheet/6941xx301002.pdf?src-supplier=Digikey
footprint 694108301002
pins: 1, 2, 3 (power)

## A765EB686M1CLAE025
designator C?, comment 68uF
Cap Alum Poly 68UF 20% 16V SMD; Manufacturer: KEMET; Manufacturer Part Number: A765EB686M1CLAE025; Supplier: Digikey; Supplier Part Number: 399-A765EB686M1CLAE025CT-ND; RoHS: No; Category: Polymer Capacitors; Stock: 8453; Pricing: 1=0.44, 10=0.295, 50=0.2346, 100=0.1937, 500=0.1513 (USD)
footprint A765EB686M1CLAE025
pins: 1, 2

## A4988SETTR-T
designator U?, comment Supplier Part Number: 620-1343-1-ND  (hidden comment: Stepper Motor Driver)
Stepper Motor Controller, 2A, DMOS; Manufacturer: Allegro MicroSystems; Manufacturer Part Number: A4988SETTR-T; Channels: 1; Power Supplies: 35V; Supply Current-Max (Isup): 8mA; Max Supply Voltage: 5.5V; Min Supply Voltage: 3V; Nominal Supply Voltage: 3.3V; Qualification Status: Not Qualified; Supplier: Digikey; RoHS: Yes; Category: Motor Drivers; Stock: 34042; Pricing: 1=3.05, 10=2.74, 25=2.5908, 100=2.2452, 250=2.13008, 500=1.91132 (USD); Case/Package: HVQCCN; Pins: 28; Package Shape: Square; Terminal Finish: Tin; Min Operating Temperature: -20°C; Max Operating Temperature: 85°C; JESD-609 Code: e3; Throw Configuration: STEPPER MOTOR CONTROLLER; Moisture Sensitivity Level: 2; Max Output current: 2A; Package Style: CHIP CARRIER, HEAT SINK/SLUG, VERY THIN PROFILEMeter; Surface Mount: Yes; Technology: NMOS; Terminal Form: No Lead; Terminal Position: QUAD; Length: 5mm; Width: 5mm; Height - Seated (Max): 1mm; Terminal Pitch: 0.5mm; Temperature Grade: OTHER; Reach SVHC Compliant: Yes; RoHS Compliant: Yes; ComponentLink1URL: https://datasheet.ciiva.com:443/pdfs/VipMasterIC/IC/ALLE/ALLE-S-A0001477902/ALLE-S-A0001477902-1.pdf?src-supplier=IHS+Markit; ComponentLink1Description: https://datasheet.ciiva.com:443/pdfs/VipMasterIC/IC/ALLE/ALLE-S-A0001477902/ALLE-S-A0001477902-1.pdf?src-supplier=IHS+Markit; ComponentLink2URL: https://datasheet.ciiva.com/1147/1481258-1147170.pdf?src-supplier=Element14; ComponentLink2Description: https://datasheet.ciiva.com/1147/1481258-1147170.pdf?src-supplier=Element14; ComponentLink3URL: https://datasheet.ciiva.com/15109/getdatasheetpartid-557828-15109654.pdf?src-supplier=Verical; ComponentLink3Description: https://datasheet.ciiva.com/15109/getdatasheetpartid-557828-15109654.pdf?src-supplier=Verical; ComponentLink4URL: https://datasheet.ciiva.com/1608/a4988-datasheet-1608449.pdf?src-supplier=Newark; ComponentLink4Description: https://datasheet.ciiva.com/1608/a4988-datasheet-1608449.pdf?src-supplier=Newark; ComponentLink5URL: https://datasheet.ciiva.com/3229/a4988-datasheet-3229532.pdf?src-supplier=Avnet; ComponentLink5Description: https://datasheet.ciiva.com/3229/a4988-datasheet-3229532.pdf?src-supplier=Avnet
footprint A4988SETTR-T
pins: 1 OUT2B, 2 /ENABLE, 3 GND, 4 CP1, 5 CP2, 6 VCP, 7 NC, 8 VREG, 9 MS1, 10 MS2, 11 MS3, 12 /RESET, 13 ROSC, 14 /SLEEP, 15 VDD, 16 STEP, 17 REF, 18 GND, 19 DIR, 20 NC, 21 OUT1B, 22 VBB1, 23 SENSE1, 24 OUT1A, 25 NC, 26 OUT2A, 27 SENSE2, 28 VBB2, 29 PAD

## AC0805FR-07110RL
designator R?, comment 110R
Fixed Resistor, Metal Glaze/thick Film, 0.125W, 110ohm, 150V, 1% +/-Tol, 100ppm/Cel, Surface Mount, 0805; Manufacturer: Yageo; Manufacturer Part Number: AC0805FR-07110RL; Additional Feature: LASER TRIMMABLE; Rated Power Dissipation (P): 125mW; Rated Temperature: 70°C; Temperature Coefficient: 100ppm/°C; Package Height: 0.5mm; Package Length: 2mm; Package Width: 1.25mm; Reference Standard: AEC-Q200; Supplier 1: Digikey; RoHS: Yes; Category: Chip SMD Resistors; Stock 1: 9650; Pricing 1: 1=0.1, 10=0.031, 50=0.0198, 100=0.0166, 500=0.01152, 1000=0.00997 (USD); Mount: Surface Mount; Number of Pins: 2; Package Shape: Rectangular; Size Code: 0805; Terminal Finish: Nickel; Min Operating Temperature: -55°C; Max Operating Temperature: 155°C; Tolerance: 1%; JESD-609 Code: e3; Resistor Type: FIXED RESISTOR; Construction: Chip; Package Style: SMTMeter; Packaging: Tape and Reel; Resistance: 110R; Technology: METAL GLAZE/THICK FILM; Termination: Wraparound; Working Voltage: 150V; Reach SVHC Compliant: Yes; RoHS Compliant: Yes; ComponentLink1URL: https://datasheet.ciiva.com:443/pdfs/VipMasterIC/IC/YAGO/YAGO-S-A0003597364/YAGO-S-A0003597364-1.pdf?src-supplier=IHS+Markit; ComponentLink1Description: https://datasheet.ciiva.com:443/pdfs/VipMasterIC/IC/YAGO/YAGO-S-A0003597364/YAGO-S-A0003597364-1.pdf?src-supplier=IHS+Markit; ComponentLink2URL: http://www.mouser.com/ds/2/447/yageodocoutput-1111992.pdf?src-supplier=Mouser; ComponentLink2Description: http://www.mouser.com/ds/2/447/yageodocoutput-1111992.pdf?src-supplier=Mouser; ComponentLink3URL: http://www.yageo.com/documents/recent/PYu-AC_51_RoHS_L_2.pdf?src-supplier=Future+Electronics; ComponentLink3Description: http://www.yageo.com/documents/recent/PYu-AC_51_RoHS_L_2.pdf?src-supplier=Future+Electronics; ComponentLink4URL: http://www.yageo.com/NewPortal/yageodocoutput?fileName=/pdf/R-Chip/PYu-AC_51_RoHS_L_6.pdf&src-supplier=Digikey; ComponentLink4Description: http://www.yageo.com/NewPortal/yageodocoutput?fileName=/pdf/R-Chip/PYu-AC_51_RoHS_L_6.pdf&src-supplier=Digikey; Supplier Part Number 1: 13-AC0805FR-07110RLCT-ND
footprint 0805
pins: 1, 2

## AP22615AWU-7
designator U?, comment Supplier Part Number 1: AP22615AWU-7DICT-ND  (hidden comment: Power Rail Switch)
Buffer/Inverter Based Peripheral Driver; Manufacturer: Diodes; Manufacturer Part Number: AP22615AWU-7; Interface IC Type: BUFFER OR INVERTER BASED PERIPHERAL DRIVER; Supplier 1: Digikey; RoHS: Yes; Category: USB Interface ICs; Stock 1: 110412; Pricing 1: 1=0.91, 10=0.805, 25=0.756, 100=0.6168, 250=0.57296, 500=0.48762, 1000=0.3901 (USD); Reach SVHC Compliant: Yes; RoHS Compliant: Yes; ComponentLink1URL: https://datasheet.ciiva.com:443/pdfs/VipMasterIC/IC/DIOD/DIOD-S-A0008958405/DIOD-S-A0008958405-1.pdf?src-supplier=IHS+Markit; ComponentLink1Description: https://datasheet.ciiva.com:443/pdfs/VipMasterIC/IC/DIOD/DIOD-S-A0008958405/DIOD-S-A0008958405-1.pdf?src-supplier=IHS+Markit; ComponentLink2URL: https://www.diodes.com/assets/Datasheets/AP22815-615.pdf?src-supplier=Digikey; ComponentLink2Description: https://www.diodes.com/assets/Datasheets/AP22815-615.pdf?src-supplier=Digikey; ComponentLink3URL: https://datasheet.octopart.com/AP22615AWU-7-Diodes-Inc.-datasheet-158591198.pdf?src-supplier=SHENGYU+ELECTRONICS; ComponentLink3Description: https://datasheet.octopart.com/AP22615AWU-7-Diodes-Inc.-datasheet-158591198.pdf?src-supplier=SHENGYU+ELECTRONICS
footprint AP22615AWU-7
pins: 1 OUT, 2 GND, 3 FLG, 4 EN, 5 ISET, 6 IN

## AP64350SP-13
designator U?, comment 3V3 Switching Regulator  (value not drawn)
Switching Regulator; Manufacturer: Diodes; Manufacturer Part Number: AP64350SP-13; Supplier 1: Digikey; RoHS: Yes; Category: Voltage Regulators - Switching; Stock 1: 138535; Pricing 1: 1=1.58, 10=1.411, 25=1.3392, 100=1.0999, 250=1.0282, 500=0.90864, 1000=0.71735 (USD); ComponentLink1URL: https://datasheet.ciiva.com:443/pdfs/VipMasterIC/IC/DIOD/DIOD-S-A0009073043/DIOD-S-A0009073043-1.pdf?src-supplier=IHS+Markit; ComponentLink1Description: https://datasheet.ciiva.com:443/pdfs/VipMasterIC/IC/DIOD/DIOD-S-A0009073043/DIOD-S-A0009073043-1.pdf?src-supplier=IHS+Markit; Supplier Part Number 1: 31-AP64350SP-13CT-ND
footprint AP64350SP-13
pins: 1 BST, 2 VIN, 3 EN, 4 RT/CLK, 5 FB, 6 COMP, 7 GND, 8 SW, 9 PAD

## APT2012SURCK
designator LED?, comment Supplier Part Number 1: 754-1133-1-ND  (hidden comment: Red LED)
Single Color LED, Hyper Red, Water Clear, 1.3mm; Manufacturer: Kingbright; Manufacturer Part Number: APT2012SURCK; Shape: Rectangular; Forward Current-Max: 30mA; Luminous Intensity-Nom: 150mcd; Number of Functions: 1; Viewing Angle: 120°; Forward Voltage-Max: 2.5V; Reverse Voltage-Max: 5V; Overall Height: 0.75mm; Supplier 1: Digikey; RoHS: Yes; Category: LEDs; Stock 1: 156782; Pricing 1: 1=0.29, 10=0.23, 100=0.1033, 500=0.09332, 1000=0.07666 (USD); Mount: Surface Mount; Number of Pins: 2; Color: Red; Color@wavelength: Red; Min Operating Temperature: -40°C; Max Operating Temperature: 85°C; Lens Style: WATER CLEAR; Optoelectronic Device Type: SINGLE COLOR LED; Packaging: Tape and Reel; Size: 1.3mm; Terminal Pitch: 2.35mm; RoHS Compliant: Yes; Reach SVHC Compliant: Yes; ComponentLink1URL: https://datasheet.ciiva.com:443/pdfs/VipMasterIC/IC/KBEC/KBEC-S-A0009186762/KBEC-S-A0009186762-1.pdf?src-supplier=IHS+Markit; ComponentLink1Description: https://datasheet.ciiva.com:443/pdfs/VipMasterIC/IC/KBEC/KBEC-S-A0009186762/KBEC-S-A0009186762-1.pdf?src-supplier=IHS+Markit; ComponentLink2URL: https://datasheet.ciiva.com/4689/apt2012surck-41297-4689448.pdf?src-supplier=Mouser; ComponentLink2Description: https://datasheet.ciiva.com/4689/apt2012surck-41297-4689448.pdf?src-supplier=Mouser; ComponentLink3URL: https://datasheet.ciiva.com/16415/apt2012surck-16415425.pdf?src-supplier=Future+Electronics; ComponentLink3Description: https://datasheet.ciiva.com/16415/apt2012surck-16415425.pdf?src-supplier=Future+Electronics; ComponentLink4URL: https://datasheet.ciiva.com/2113/apt2012surck-2113835.pdf?src-supplier=Digikey; ComponentLink4Description: https://datasheet.ciiva.com/2113/apt2012surck-2113835.pdf?src-supplier=Digikey; ComponentLink5URL: https://datasheet.ciiva.com/2113/apt2012surck-2113836.pdf?src-supplier=Digikey; ComponentLink5Description: https://datasheet.ciiva.com/2113/apt2012surck-2113836.pdf?src-supplier=Digikey
footprint 0805_LED
pins: 1 A, 2 K

## APTD2012LQBC/D
designator LED?, comment Supplier Part Number 1: 754-2046-1-ND  (hidden comment: Blue LED)
Single Color LED; Manufacturer: Kingbright; Manufacturer Part Number: APTD2012LQBC/D; Supplier 1: Digikey; RoHS: Yes; Category: LEDs; Stock 1: 20866; Pricing 1: 1=0.54, 10=0.358, 100=0.2367, 1000=0.18275 (USD); RoHS Compliant: Yes; ComponentLink1URL: https://datasheet.ciiva.com:443/pdfs/VipMasterIC/IC/KBEC/KBEC-S-A0008946974/KBEC-S-A0008947044-1.pdf?src-supplier=IHS+Markit; ComponentLink1Description: https://datasheet.ciiva.com:443/pdfs/VipMasterIC/IC/KBEC/KBEC-S-A0008946974/KBEC-S-A0008947044-1.pdf?src-supplier=IHS+Markit; ComponentLink2URL: http://www.kingbrightusa.com/images/catalog/SPEC/APTD2012LQBC-D.pdf?src-supplier=Digikey; ComponentLink2Description: http://www.kingbrightusa.com/images/catalog/SPEC/APTD2012LQBC-D.pdf?src-supplier=Digikey
footprint 0805_LED
pins: 1 A, 2 K

## APTD2012LZGCK
designator LED?, comment Supplier Part Number 1: 754-2048-1-ND  (hidden comment: Green LED)
Single Color LED; Manufacturer: Kingbright; Manufacturer Part Number: APTD2012LZGCK; Supplier 1: Digikey; RoHS: Yes; Category: LEDs; Stock 1: 25196; Pricing 1: 1=0.65, 10=0.427, 100=0.2823, 1000=0.21796 (USD); RoHS Compliant: Yes; ComponentLink1URL: https://datasheet.ciiva.com:443/pdfs/VipMasterIC/IC/KBEC/KBEC-S-A0008946974/KBEC-S-A0008946922-1.pdf?src-supplier=IHS+Markit; ComponentLink1Description: https://datasheet.ciiva.com:443/pdfs/VipMasterIC/IC/KBEC/KBEC-S-A0008946974/KBEC-S-A0008946922-1.pdf?src-supplier=IHS+Markit; ComponentLink2URL: http://www.kingbrightusa.com/images/catalog/SPEC/APTD2012LZGCK.pdf?src-supplier=Digikey; ComponentLink2Description: http://www.kingbrightusa.com/images/catalog/SPEC/APTD2012LZGCK.pdf?src-supplier=Digikey
footprint 0805_LED
pins: 1 A, 2 K

## AS78L05RTR-E1
designator U?, comment Supplier Part Number 1: AS78L05RTR-E1DICT-ND  (hidden comment: Fixed 5V Linear Regulator)
Fixed Positive Standard Regulator, 5VBIPolar; Manufacturer: Diodes; Manufacturer Part Number: AS78L05RTR-E1; Package Body Material: Plastic; Dropout Voltage1-Nom: 1.8V; Input Voltage Absolute-Max: 36V; Line Regulation-Max: 0.15%; Load Regulation-Max: 0.06%; Number of Outputs: 1; Output Current1-Max: 100mA; Package Equivalence Code: TO-243; Regulator Type: FIXED POSITIVE SINGLE OUTPUT STANDARD REGULATOR; Voltage Tolerance-Max: 5%; Qualification Status: Not Qualified; Supplier 1: Digikey; RoHS: Yes; Category: Voltage Regulators - Linear; Stock 1: 132070; Pricing 1: 1=0.39, 10=0.291, 25=0.2628, 100=0.1815, 250=0.15288, 500=0.1242 (USD); Number of Pins: 3; Terminal Finish: Tin; JESD-609 Code: e3; Adjustability: FIXED; Moisture Sensitivity Level: 3; Operating Temperature, TJ-Max: 125°C; Operating Temperature, TJ-Min: -40°C; Output Voltage1-Nom: 5V; Packaging: Tape and Reel; Surface Mount: Yes; Technology: BIPOLAR; Reach SVHC Compliant: Yes; RoHS Compliant: Yes; ComponentLink1URL: https://datasheet.ciiva.com:443/pdfs/VipMasterIC/IC/DIOD/DIODS20236/DIODS20236-1.pdf?src-supplier=IHS+Markit; ComponentLink1Description: https://datasheet.ciiva.com:443/pdfs/VipMasterIC/IC/DIOD/DIODS20236/DIODS20236-1.pdf?src-supplier=IHS+Markit; ComponentLink2URL: https://datasheet.ciiva.com/30016/as78lxx-30016635.pdf?src-supplier=Avnet; ComponentLink2Description: https://datasheet.ciiva.com/30016/as78lxx-30016635.pdf?src-supplier=Avnet
footprint AS78L05RTR-E1
pins: 1 OUTPUT, 2 GND, 3 INPUT

## BC846BLT1G
designator Q?, comment Supplier Part Number 1: BC846BLT1GOSCT-ND  (hidden comment: NPN BJT)
Small Signal Bipolar Transistor, 0.1A I(C), 65V V(BR)CEO, 1-Element, NPN, Silicon, TO-236; Manufacturer: ON Semiconductor; Manufacturer Part Number: BC846BLT1G; Package Body Material: Plastic; Power Dissipation-Max (Abs): 225mW; Max Collector Current: 100mA; DC Current Gain-Min (hFE): 200; Number of Elements: 1; Transition Frequency-Nom (fT): 100MHz; Transistor Application: SWITCHING; Time @ Peak Reflow Temperature-Max (s): 40s; Qualification Status: Not Qualified; Supplier 1: Digikey; RoHS: Yes; Category: BJTs; Stock 1: 1618453; Pricing 1: 1=0.14, 10=0.097, 100=0.0522, 500=0.04102, 1000=0.02848 (USD); Number of Pins: 3; Terminal Finish: Tin; Package Shape: Rectangular; Transistor Element Material: SILICON; Max Operating Temperature: 150°C; JESD-609 Code: e3; Polarity/Channel Type: NPN; Moisture Sensitivity Level: 1; Package Style: SMALL OUTLINEMeter; Surface Mount: Yes; Terminal Form: Gull Wing; Terminal Position: DUAL; Collector-emitter Voltage-Max: 65V; JESD-30 Code: R-PDSO-G3; Peak Reflow Temperature (Cel): 260°C; Reach SVHC Compliant: Yes; RoHS Compliant: Yes; JEDEC-95 Code: TO-236; ComponentLink1URL: https://datasheet.ciiva.com:443/pdfs/VipMasterIC/IC/ONSM/ONSM-S-A0009451914/ONSM-S-A0009451914-1.pdf?src-supplier=IHS+Markit; ComponentLink1Description: https://datasheet.ciiva.com:443/pdfs/VipMasterIC/IC/ONSM/ONSM-S-A0009451914/ONSM-S-A0009451914-1.pdf?src-supplier=IHS+Markit; ComponentLink2URL: https://datasheet.ciiva.com/15138/getdatasheetpartid-38790-15138644.pdf?src-supplier=Verical; ComponentLink2Description: https://datasheet.ciiva.com/15138/getdatasheetpartid-38790-15138644.pdf?src-supplier=Verical; ComponentLink3URL: https://datasheet.ciiva.com/27056/2010421-27056146.pdf?src-supplier=Jameco; ComponentLink3Description: https://datasheet.ciiva.com/27056/2010421-27056146.pdf?src-supplier=Jameco; ComponentLink4URL: https://datasheet.ciiva.com/7972/bc846alt1-d-7972189.pdf?src-supplier=Element14; ComponentLink4Description: https://datasheet.ciiva.com/7972/bc846alt1-d-7972189.pdf?src-supplier=Element14
footprint BC846BLT1G
pins: 1 B, 2 E, 3 C

## BTS3011TEATMA1
designator U?, comment Supplier Part Number 1: 448-BTS3011TEATMA1CT-ND  (hidden comment: Power Rail Switch)
Current Limit SW 1-IN 1-OUT 3V to 5.5V 10A Automotive 7-Pin(6+Tab) D2PAK T/R; Manufacturer: Infineon; Manufacturer Part Number: BTS3011TEATMA1; Supplier 1: Digikey; RoHS: Yes; Category: Power Management ICs; Stock 1: 16298; Pricing 1: 1=2.62, 10=2.353, 25=2.2196, 100=1.891, 250=1.7756, 500=1.55364, 1000=1.2873 (USD); Reach SVHC Compliant: No; ComponentLink1URL: https://datasheet.ciiva.com:443/pdfs/VipMasterIC/IC/INFN/INFN-S-A0006623395/INFN-S-A0006623395-1.pdf?src-supplier=IHS+Markit; ComponentLink1Description: https://datasheet.ciiva.com:443/pdfs/VipMasterIC/IC/INFN/INFN-S-A0006623395/INFN-S-A0006623395-1.pdf?src-supplier=IHS+Markit
footprint BTS3011TEATMA1
pins: 1 IN, 2 VDD, 4 STATUS, 5 GND, 6 OUT

## BV1HAL45EFJ-E2
designator U?, comment Supplier Part Number 1: 846-BV1HAL45EFJ-E2CT-ND  (hidden comment: Power Rail Switch)
Power Switch High Side 0.5uA 8-Pin HTSOP-J EP Embossed T/R; Manufacturer: Rohm; Manufacturer Part Number: BV1HAL45EFJ-E2; Supplier 1: Digikey; RoHS: No; Category: Uncategorized; Stock 1: 8369; Pricing 1: 1=1.81, 10=1.63, 25=1.5376, 100=1.3101, 250=1.23016, 500=1.0764, 1000=0.89188 (USD)
footprint BV1HAL45EFJ-E2
pins: 1 SS, 2 ILIM, 3 GND, 4 FLAG, 5 EN, 6 NC, 7 OUT, 8 OUT, 9 VIN (PAD)